# EAGLE library part SSW-110-22-F-D-VS-K (library SSW11022FDVSK)
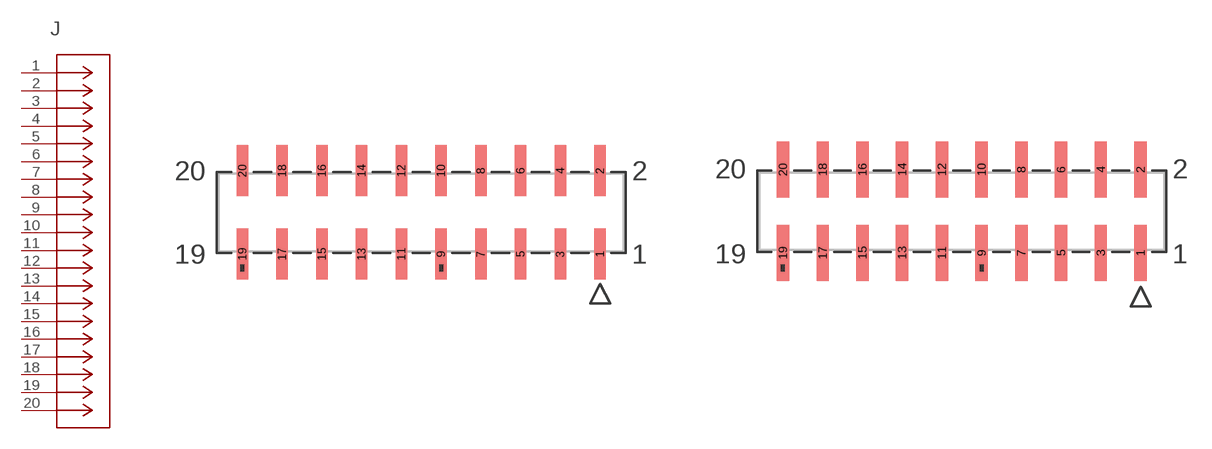
[diagram p0: symbol with the pads of CON10_SSW-D-DUMZ_HDR_SAI; footprints CON10_SSW-D-DUMZ_HDR_SAI, CON10_SSW-D-DUMZ_HDR_SAI-M]

Designator prefix J

## SSW-110-22-F-D-VS-K (BUILT_BY: EMA_UL_Team; MANUFACTURER_PART_NUMBER: SSW-110-22-F-D-VS-K; SOURCELIBRARY: Samtec_2008-01-01_SSW-D-VS-K; VENDOR: Samtec Inc)  [CON10_SSW-D-DUMZ_HDR_SAI]
1  1  pas
2  2  pas
3  3  pas
4  4  pas
5  5  pas
6  6  pas
7  7  pas
8  8  pas
9  9  pas
10  10  pas
11  11  pas
12  12  pas
13  13  pas
14  14  pas
15  15  pas
16  16  pas
17  17  pas
18  18  pas
19  19  pas
20  20  pas

## SSW-110-22-F-D-VS-KCON10_SSW-D-DUMZ_HDR_SAI-M (BUILT_BY: EMA_UL_Team; MANUFACTURER_PART_NUMBER: SSW-110-22-F-D-VS-K; SOURCELIBRARY: Samtec_2008-01-01_SSW-D-VS-K; VENDOR: Samtec Inc)  [CON10_SSW-D-DUMZ_HDR_SAI-M]
Pads as for CON10_SSW-D-DUMZ_HDR_SAI

## SSW-110-22-F-D-VS-KCON10_SSW-D-DUMZ_HDR_SAI-L (BUILT_BY: EMA_UL_Team; MANUFACTURER_PART_NUMBER: SSW-110-22-F-D-VS-K; SOURCELIBRARY: Samtec_2008-01-01_SSW-D-VS-K; VENDOR: Samtec Inc)  [CON10_SSW-D-DUMZ_HDR_SAI-L]
Pads as for CON10_SSW-D-DUMZ_HDR_SAI

## Footprint CON10_SSW-D-DUMZ_HDR_SAI (pad centres in mm)
smd 0.737 x 3.251: 1 11.43,-2.667; 2 11.43,2.667; 3 8.89,-2.667; 4 8.89,2.667; 5 6.35,-2.667; 6 6.35,2.667; 7 3.81,-2.667; 8 3.81,2.667; 9 1.27,-2.667; 10 1.27,2.667; 11 -1.27,-2.667; 12 -1.27,2.667; 13 -3.81,-2.667; 14 -3.81,2.667; 15 -6.35,-2.667; 16 -6.35,2.667; 17 -8.89,-2.667; 18 -8.89,2.667; 19 -11.43,-2.667; 20 -11.43,2.667

## Footprint CON10_SSW-D-DUMZ_HDR_SAI-M (pad centres in mm)
smd 0.787 x 3.556: 1 11.43,-2.667; 2 11.43,2.667; 3 8.89,-2.667; 4 8.89,2.667; 5 6.35,-2.667; 6 6.35,2.667; 7 3.81,-2.667; 8 3.81,2.667; 9 1.27,-2.667; 10 1.27,2.667; 11 -1.27,-2.667; 12 -1.27,2.667; 13 -3.81,-2.667; 14 -3.81,2.667; 15 -6.35,-2.667; 16 -6.35,2.667; 17 -8.89,-2.667; 18 -8.89,2.667; 19 -11.43,-2.667; 20 -11.43,2.667

## Footprint CON10_SSW-D-DUMZ_HDR_SAI-L (pad centres in mm)
smd 0.737 x 2.946: 1 11.43,-2.667; 2 11.43,2.667; 3 8.89,-2.667; 4 8.89,2.667; 5 6.35,-2.667; 6 6.35,2.667; 7 3.81,-2.667; 8 3.81,2.667; 9 1.27,-2.667; 10 1.27,2.667; 11 -1.27,-2.667; 12 -1.27,2.667; 13 -3.81,-2.667; 14 -3.81,2.667; 15 -6.35,-2.667; 16 -6.35,2.667; 17 -8.89,-2.667; 18 -8.89,2.667; 19 -11.43,-2.667; 20 -11.43,2.667